# Altium footprint library Daxxn_Batteries.PcbLib: 1 footprints
Each footprint in its own frame and in the unit in brackets; x right, y up, seen from the top. Pads: shape width x height; smd on the part's side, far side on the other; paste and mask are expansions set on the pad; w line width, h text height; cw(c..) or ccw(c..) is an arc to the next point about the centre after c.
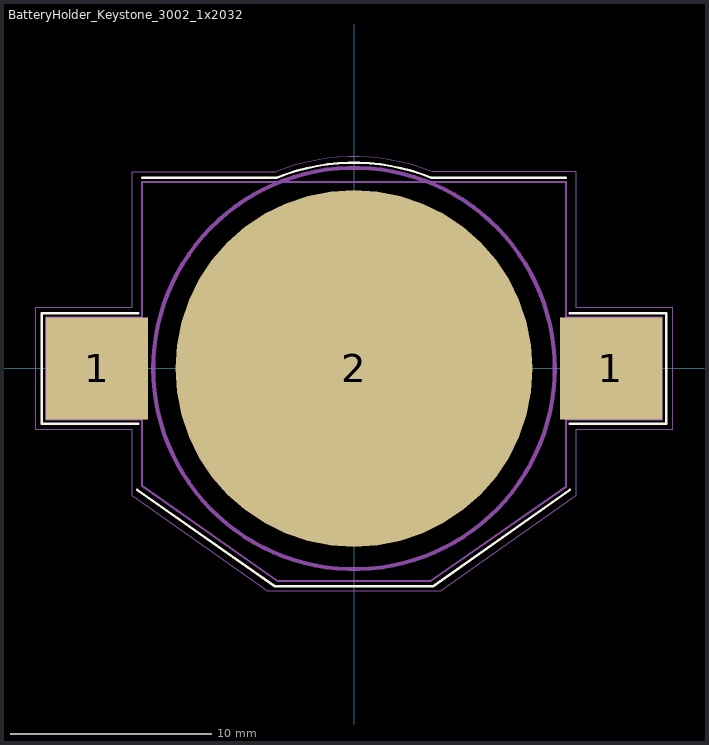
[diagram p0: the footprint, top view; thin cyan lines are the x and y axes]

## BatteryHolder_Keystone_3002_1x2032 [mm]
pads (3):
  rect 5.1x5.1 smd: 1(-12.8,0) 1(12.8,0)
  round 17.8 smd: 2(0,0)
F.SilkS:
  lines w0.12: -10.8,-6.05 -3.95,-10.85 3.95,-10.85 10.75,-6.05 ; -10.75,-2.75 -15.55,-2.75 -15.55,2.75 -10.75,2.75 ; -10.55,9.5 -3.85,9.5 ; -3.846,9.501 cw(c0,0) 3.85,9.5 10.55,9.5 ; 10.75,-2.75 15.55,-2.75 15.55,2.75 10.75,2.75
Dwgs.User:
  circle w0.2: c0,0 r10
F.CrtYd:
  lines w0.05: -15.85,-3.05 -15.85,3.05 -11.05,3.05 -11.05,9.8 -3.9,9.8 cw(c0,0) 3.9,9.8 11.05,9.8 11.05,3.05 15.85,3.05 15.85,-3.05 11.05,-3.05 11.05,-6.35 4.3,-11.1 -4.3,-11.1 -11.05,-6.35 -11.05,-3.05 -15.85,-3.05
F.Fab:
  lines w0.1: -15.35,-2.55 -10.55,-2.55 -10.55,-5.85 -3.8,-10.6 3.8,-10.6 10.55,-5.9 10.55,-2.55 15.35,-2.55 15.35,2.55 10.55,2.55 10.55,9.3 -10.55,9.3 -10.55,2.55 -15.35,2.55 -15.35,-2.55
  text "'.Designator'" at -13.197,-10.54 h1